# EAGLE library part 74141 (library sibosop)
Nixie BCD Decoder
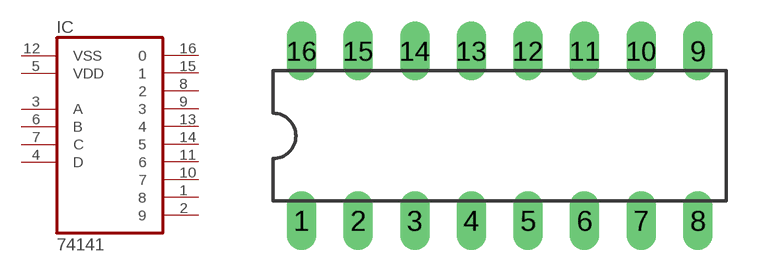
[diagram p4: symbol with the pads of DIP16; footprint DIP16]

Designator prefix IC

## 74141  [DIP16]
1  8  oc
2  9  oc
3  A  in
4  D  in
5  VDD  pwr
6  B  in
7  C  in
8  2  oc
9  3  oc
10  7  oc
11  6  oc
12  VSS  pwr
13  4  oc
14  5  oc
15  1  oc
16  0  oc

## Footprint DIP16 (pad centres in mm)
drill 0.813 long: 1 -8.89,-3.81; 2 -6.35,-3.81; 3 -3.81,-3.81; 4 -1.27,-3.81; 5 1.27,-3.81; 6 3.81,-3.81; 7 6.35,-3.81; 8 8.89,-3.81; 9 8.89,3.81; 10 6.35,3.81; 11 3.81,3.81; 12 1.27,3.81; 13 -1.27,3.81; 14 -3.81,3.81; 15 -6.35,3.81; 16 -8.89,3.81